# Altium schematic symbol library INDUCTOR.SchLib: 1 symbol
Pins are listed as number, name and electrical type; pins without a type are passive.

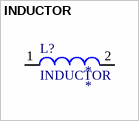
[diagram p0: symbol INDUCTOR]

## INDUCTOR
designator L?
Value: *; Tolerance: *
pins: 1, 2